# EAGLE library part MRF89XA (library microchip2)
Microchip MRF89XA
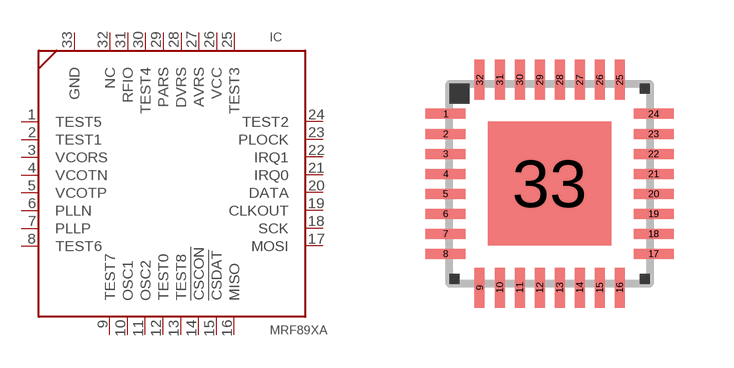
[diagram p163: symbol with the pads of QFN33-5X5; footprint QFN33-5X5]

Designator prefix IC

## MRF89XA-QFN  [QFN33-5X5]
1  TEST5  in
2  TEST1  in
3  VCORS  out
4  VCOTN
5  VCOTP
6  PLLN
7  PLLP
8  TEST6  in
9  TEST7  in
10  OSC1
11  OSC2
12  TEST0  in
13  TEST8  in
14  !CSCON  in
15  !CSDAT  in
16  MISO  out
17  MOSI  in
18  SCK  in
19  CLKOUT  out
20  DATA
21  IRQ0  out
22  IRQ1  out
23  PLOCK  out
24  TEST2  in
25  TEST3  in
26  VCC  pwr
27  AVRS  out
28  DVRS  out
29  PARS  out
30  TEST4  in
31  RFIO
32  NC  in
33  GND  pwr

## Footprint QFN33-5X5 (pad centres in mm)
QFN33 Plastic thermal enhanced quad flat package; 33 terminals; body 5x5x0.75 mm;
smd 1 x 0.25: 1 -2.6,1.75; 2 -2.6,1.25; 3 -2.6,0.75; 4 -2.6,0.25; 5 -2.6,-0.25; 6 -2.6,-0.75; 7 -2.6,-1.25; 8 -2.6,-1.75; 17 2.6,-1.75; 18 2.6,-1.25; 19 2.6,-0.75; 20 2.6,-0.25; 21 2.6,0.25; 22 2.6,0.75; 23 2.6,1.25; 24 2.6,1.75
smd 0.25 x 1: 9 -1.75,-2.6; 10 -1.25,-2.6; 11 -0.75,-2.6; 12 -0.25,-2.6; 13 0.25,-2.6; 14 0.75,-2.6; 15 1.25,-2.6; 16 1.75,-2.6; 25 1.75,2.6; 26 1.25,2.6; 27 0.75,2.6; 28 0.25,2.6; 29 -0.25,2.6; 30 -0.75,2.6; 31 -1.25,2.6; 32 -1.75,2.6
smd 3.1 x 3.1: 33 0,0.01